# Altium footprint library zs_sener_pcb.PcbLib: 20 footprints (part 1 of 2)
Each footprint in its own frame and in the unit in brackets; x right, y up, seen from the top. Pads: shape width x height; smd on the part's side, far side on the other; paste and mask are expansions set on the pad; w line width, h text height; cw(c..) or ccw(c..) is an arc to the next point about the centre after c.
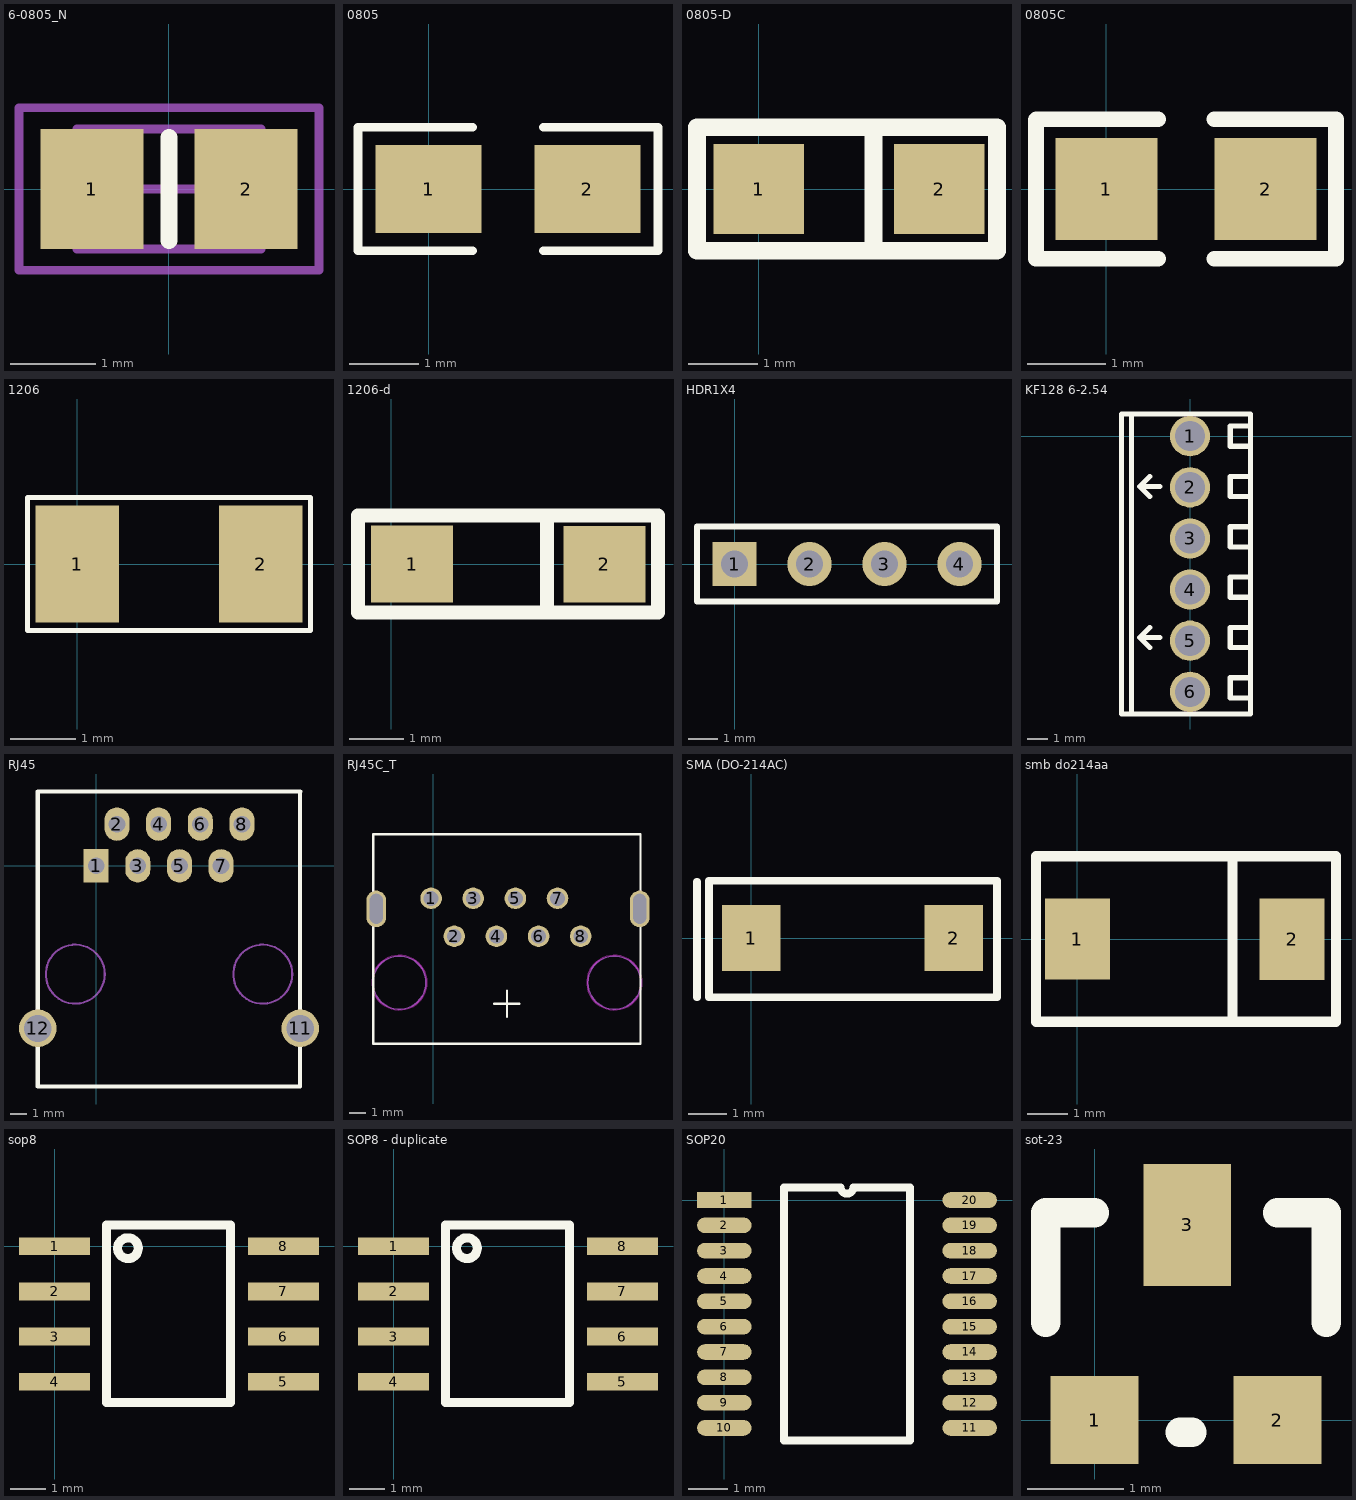
[diagram p0: the footprints below, top view; thin cyan lines are the x and y axes]

## 6-0805_N [mm] "Chip Resistor, Body 2.0x1.2mm, IPC Medium Density"
height 0.7
pads (2):
  rect 1.2x1.4 smd: 1(-0.9,0) 2(0.9,0)
Top Overlay:
  lines w0.2: 0,-0.6 0,0.6
Mechanical 13:
  lines w0.1: -1.075,-0.7 1.075,-0.7 1.075,0.7 -1.075,0.7 -1.075,-0.7
Mechanical 15:
  lines w0.1: -0.5,0 0.5,0 ; 0,-0.5 0,0.5 ; -1.75,-0.95 1.75,-0.95 1.75,0.95 -1.75,0.95 -1.75,-0.95
3D body: height 0.7, standoff 0, extent -1.075,-0.7 1.075,0.7

## 0805 [mil]
pads (2):
  rect 60x50 smd: 1(0,0) 2(90,0)
Top Overlay:
  lines w5: 25,-35 -40,-35 -40,35 25,35 ; 65,-35 130,-35 130,35 65,35

## 0805-D [mm]
pads (2):
  rect 1.3x1.3 smd: 1(0,0) 2(2.596,0)
Top Overlay:
  lines w0.254: 1.651,-0.889 1.651,0.889 ; -0.889,-0.889 3.429,-0.889 3.429,0.889 -0.889,0.889 -0.889,-0.889

## 0805C [mm] "0805无极性电容"
pads (2):
  rect 1.3x1.3 smd: 1(0,0) 2(2.027,0)
Top Overlay:
  lines w0.2: 0.66,-0.889 -0.896,-0.889 -0.896,0 -0.896,0.882 -0.889,0.889 0.66,0.889 ; 1.372,-0.889 2.923,-0.889 2.923,0.887 2.921,0.889 1.372,0.889

## 1206 [mil]
pads (2):
  rect 50x70 smd: 1(0,0) 2(110,0)
Top Overlay:
  lines w3: -30,-40 140,-40 140,40 -30,40 -30,-40

## 1206-d [mm]
pads (2):
  rect 1.5x1.4 smd: 1(0.381,0) 2(3.896,-0.001)
Top Overlay:
  lines w0.254: 2.845,-0.889 2.845,0.889 ; -0.61,-0.889 4.877,-0.889 4.877,0.889 -0.61,0.889 -0.61,-0.889

## HDR1X4 [mm] "Connector; Header; 4 Position"
pads (4):
  rect 1.5x1.5 hole 0.9: 1(0,0)
  round 1.5 hole 0.9: 2(2.54,0) 3(5.08,0) 4(7.62,0)
Top Overlay:
  lines w0.2: -1.27,-1.27 -1.27,1.27 8.89,1.27 8.89,-1.27 -1.27,-1.27

## KF128 6-2.54 [mm]
pads (6):
  round 2 hole 1.5: 1(0,0) 2(0,-2.54) 3(0,-5.08) 4(0,-7.62) 5(0,-10.16) 6(0,-12.7)
Top Overlay:
  lines w0.254: -3.4,-0.4 -3.4,1.1 0.8,1.1 ; -3.4,0 -3.4,-13.8 0.1,-13.8 ; -2.9,-13.8 -2.9,1.1 ; -2,-10.5 -2.5,-10 ; -2,-3 -2.5,-2.5 ; -1.5,-10 -2.5,-10 ; -1.5,-2.5 -2.4,-2.5 -2.5,-2.5 ; 0,-13.8 3,-13.8 3,0 ; 0,1.1 3,1.1 3,-0.1 ; 2.9,0.5 2.1,0.5 2,0.5 2,-0.5 3,-0.5 ; 3,-13 2,-13 2,-12 3,-12 ; 3,-10.5 2,-10.5 2,-9.5 3,-9.5 ; 3,-8 2,-8 2,-7 3,-7 ; 3,-5.5 2,-5.5 2,-4.5 3,-4.5 ; 3,-3 2,-3 2,-2 3,-2 ; -2.5,-10 -2.5,-10 ; -2.5,-10 -2,-9.5 ; -2.5,-10 -2,-9.5 ; -2.5,-2.5 -2,-2 -2.5,-2.5 ; -2,-9.5 -2,-9.5

## RJ45 [mil]
height 30
pads (10):
  rect 60x80 hole 40: 1(0,0)
  oval 60x80 hole 40: 2(50,100) 3(100,0) 4(150,100) 5(200,0) 6(250,100) 7(300,0) 8(350,100)
  round 90 hole 65: 11(490,-390) 12(-140,-390)
Top Overlay:
  lines w10: -140.16,-530 489.76,-530 489.76,-129.92 489.76,178.5 ; -140,-530 -140.16,-529.84 -140.16,-129.92 -140.16,178.58 ; -140,178.74 -140.16,178.58 ; 490,178.74 489.76,178.5 ; -140.16,178.58 489.69,178.58 489.76,178.5
Mechanical 1:
  circle w5: c-50,-260 r70.8
  circle w5: c400,-260 r70.8

## RJ45C_T [mm]
pads (10):
  round 1.3 hole 0.9: 1(-0.127,15.875) 2(1.27,13.589) 3(2.413,15.875) 4(3.81,13.589) 5(4.953,15.875) 6(6.35,13.589) 7(7.493,15.875) 8(8.89,13.589)
  oval 1.2x2.2 hole 0.8 slot 1.8 at 90 deg: ""(-3.429,15.24) ""(12.446,15.24)
Top Overlay:
  lines w0.127: 3.658,9.525 5.207,9.525 ; 4.44,8.738 4.44,10.312 ; -3.608,7.112 12.492,7.112 12.492,19.736 -3.608,19.736 -3.608,7.112
Keep-Out Layer:
  circle w0.076: c-2.037,10.795 r1.65
  circle w0.076: c10.917,10.795 r1.65
Mechanical 1:
  circle w0.076: c-2.037,10.795 r1.6
  circle w0.076: c10.917,10.795 r1.6

## SMA (DO-214AC) [mm]
pads (2):
  rect 1.5x1.7 smd: 1(0,0) 2(5.213,0)
Top Overlay:
  lines w0.2: -1.397,-1.524 -1.397,1.448 ; -1.089,-1.524 -1.089,-0.054 -1.089,1.473 6.327,1.473 6.327,-1.524 -1.089,-1.524

## smb do214aa [mm]
pads (2):
  rect 1.6x2 smd: 1(0,0) 2(5.273,-0.003)
Top Overlay:
  lines w0.254: 3.81,-2.032 3.81,2.032 ; -1.016,-2.032 6.35,-2.032 6.35,0 6.35,2.032 -1.016,2.032 -1.016,0 -1.016,-2.032

## sop8 [mm]
pads (8):
  rect 2x0.5 smd: 1(0,0) 2(0,-1.27) 3(0,-2.54) 4(0,-3.81) 5(6.45,-3.81) 6(6.45,-2.54) 7(6.45,-1.27) 8(6.45,0)
Top Overlay:
  circle w0.254: c2.068,-0.05 r0.292
  lines w0.254: 1.46,-4.4 4.96,-4.4 4.96,0.6 1.46,0.6 1.46,-4.4

## SOP8 - duplicate [mm]
pads (8):
  rect 2x0.5 smd: 1(0,0) 2(0,-1.27) 3(0,-2.54) 4(0,-3.81) 5(6.45,-3.81) 6(6.45,-2.54) 7(6.45,-1.27) 8(6.45,0)
Top Overlay:
  circle w0.254: c2.068,-0.05 r0.292
  lines w0.254: 1.46,-4.4 1.46,0.6 4.96,0.6 4.96,-4.4 1.46,-4.4

## SOP20 [mm]
pads (20):
  rect 1.4x0.4 smd: 1(0,0)
  oval 1.4x0.4 smd: 2(0,-0.65) 3(0,-1.3) 4(0,-1.95) 5(0,-2.6) 6(0,-3.25) 7(0,-3.9) 8(0,-4.55) 9(0,-5.2) 10(0,-5.85) 11(6.3,-5.85) 12(6.3,-5.2) 13(6.3,-4.55) 14(6.3,-3.9) 15(6.3,-3.25) 16(6.3,-2.6) 17(6.3,-1.95) 18(6.3,-1.3) 19(6.3,-0.65) 20(6.3,0)
Top Overlay:
  lines w0.2: 1.535,-6.175 1.535,0.325 2.987,0.325 ccw(c3.15,0.325) 3.312,0.325 4.765,0.325 4.765,-6.175 1.535,-6.175

## sot-23 [mil]
pads (3):
  rect 36x36 smd: 1(0,0) 2(75,0)
  rect 36x50 smd: 3(38,80)
Top Overlay:
  lines w12: -20,40 -20,85 0,85 ; 35,-5 40,-5 ; 75,85 95,85 95,40